# Altium schematic symbol library IVV_Lib.SchLib: 25 symbols
Pins are listed as number, name and electrical type; pins without a type are passive.

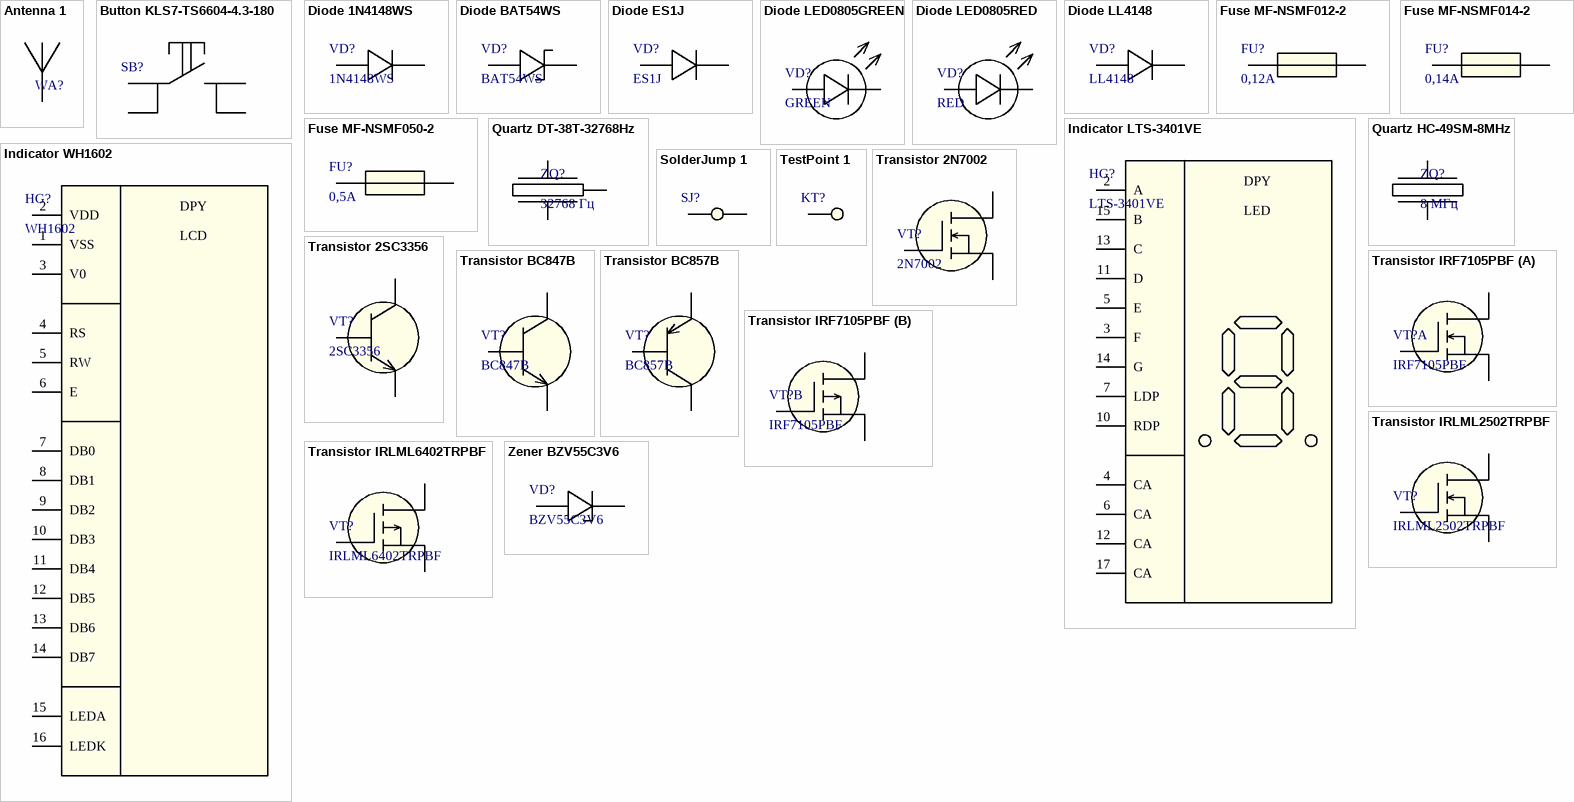
[diagram p0: symbols Antenna 1 to Zener BZV55C3V6]

## Antenna 1
designator WA?  (value not drawn)
footprint Antenna 1
pins: 1

## Button KLS7-TS6604-4.3-180
designator SB?, comment KLS7-TS6604-4.3-180  (value not drawn)
SMD Tact Switch 4.3mm; Value: KLS7-TS6604-4.3-180
footprint Button KLS7-TS6604-4.3-180
pins: 1, 2, 3, 4

## Diode 1N4148WS
designator VD?, comment 1N4148WS
150mA 100V 4ns
footprint Diode SOD-323
pins: 1 A, 2 C

## Diode BAT54WS
designator VD?, comment BAT54WS
200mA 30V Schottky
footprint Diode SOD-323
pins: 1 A, 2 C

## Diode ES1J
designator VD?, comment ES1J
1A 600V 35ns
footprint Diode SMA
pins: 1 A, 2 C

## Diode LED0805GREEN
designator VD?, comment GREEN
LED Green SMD0805
footprint Diode SMD0805
pins: 1 A, 2 C

## Diode LED0805RED
designator VD?, comment RED
LED Red SMD0805
footprint Diode SMD0805
pins: 1 A, 2 C

## Diode LL4148
designator VD?, comment LL4148
150mA 100V
footprint Diode SOD-80
pins: 1 A, 2 C

## Fuse MF-NSMF012-2
designator FU?, comment 0,12А
Value: 0,12А
footprint Fuse MF-NSMF012-2
pins: 1, 2

## Fuse MF-NSMF014-2
designator FU?, comment 0,14А
Value: 0,14А
footprint Fuse MF-NSMF
pins: 1, 2

## Fuse MF-NSMF050-2
designator FU?, comment 0,5А
Value: 0,5А
footprint Fuse MF-NSMF
pins: 1, 2

## Indicator LTS-3401VE
designator HG?, comment LTS-3401VE
Value: LTS-3401VE
footprint Indicator LTS3401VE
pins: 2 A, 3 F, 4 CA, 5 E, 6 CA, 7 LDP, 10 RDP, 11 D, 12 CA, 13 C, 14 G, 15 B, 17 CA
text: DPY; LED

## Indicator WH1602
designator HG?, comment WH1602
Value: WH1602
footprint Indicator WH1602
pins: 1 VSS (power), 2 VDD (power), 3 V0 (power), 4 RS (power), 5 RW (power), 6 E (power), 7 DB0 (power), 8 DB1 (power), 9 DB2 (power), 10 DB3 (power), 11 DB4 (power), 12 DB5 (power), 13 DB6 (power), 14 DB7 (power), 15 LEDA (power), 16 LEDK (power)
text: DPY; LCD

## Quartz DT-38T-32768Hz
designator ZQ?, comment 32768 Гц
Value: DT-38T-32768Hz
footprint Quartz DT-38T-32768Hz
pins: 1, 2, 3 GND (power)

## Quartz HC-49SM-8MHz
designator ZQ?, comment 8 МГц
Value: HC-49SM-8MHz
footprint Quartz HC-49SM
pins: 1, 2

## SolderJump 1
designator SJ?  (value not drawn)
footprint SolderJump 1
pins: 1, 2

## TestPoint 1
designator KT?  (value not drawn)
footprint TestPoint 1
pins: 1

## Transistor 2N7002
designator VT?, comment 2N7002
Value: 2N7002
footprint Transistor SOT23
pins: 1 G, 2 S, 3 D

## Transistor 2SC3356
designator VT?, comment 2SC3356
Value: 2SC3356
footprint Transistor SOT23
pins: 1 B, 2 E, 3 C

## Transistor BC847B
designator VT?, comment BC847B
Value: BC847B
footprint Transistor SOT23
pins: 1 B, 2 E, 3 C

## Transistor BC857B
designator VT?, comment BC857B
Value: BC857B
footprint Transistor SOT23
pins: 1 B, 2 E, 3 C

## Transistor IRF7105PBF
designator VT?, comment IRF7105PBF
Value: IRF7105BPF
footprint Transisror IRF7105
part A pins: D1, G1, S1
part B pins: D2, G2, S2

## Transistor IRLML2502TRPBF
designator VT?, comment IRLML2502TRPBF
Value: IRLML2502TRPBF
footprint Transistor SOT23
pins: 1 G, 2 S, 3 D

## Transistor IRLML6402TRPBF
designator VT?, comment IRLML6402TRPBF
Value: IRLML6402TRPBF
footprint Transistor SOT23
pins: 1 G, 2 S, 3 D

## Zener BZV55C3V6
designator VD?, comment BZV55C3V6
Value: BZV55C3V6
footprint Diode SOD-80
pins: 1 A, 2 C